# Altium integrated library LM35DZ.IntLib: 1 symbol
Pins are listed as number, name and electrical type; pins without a type are passive.

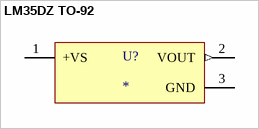
[diagram p0: symbol LM35DZ TO-92]

## LM35DZ TO-92
designator U?
TEMP SENSOR, Â± 0.4Â°C; IC Output Type:Voltage; Sensing Accuracy Range:Â± 0.4Â°C; Sensing Temperature Min:+2Â°C; Sensing Temperature Max:+100Â°C; Sensor Case Style:TO-92; No. of Pins:3Pins; Supply Voltage Min:4V; Supply Voltage Max:30V; Product Range:LM35; MF: Texas Instruments; MP: LM35DZNOPB; SnapEDA_Link: https://www.snapeda.com/parts/LM35DZNOPB/Texas+Instruments/view-part/?ref=snap; Package: TO-92 Texas Instruments; Value: *; Check_prices: https://www.snapeda.com/parts/LM35DZNOPB/Texas+Instruments/view-part/?ref=eda
footprint TO92127P521H735-3
pins: 1 +VS (power), 2 VOUT (out), 3 GND (power)